# Altium integrated library RC0603FR-071ML.IntLib: 1 symbol
Pins are listed as number, name and electrical type; pins without a type are passive.

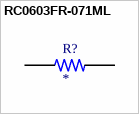
[diagram p0: symbol RC0603FR-071ML]

## RC0603FR-071ML
designator R?
Thick film general purpose; MF: {'manufacturer': u'YAGEO'}; MP: RC0603FR-071ML; Package: None; Price: None; Value: *; Availability: Unavailable
footprint RESC1607X60N
pins: 1, 2